# EAGLE library part TRANS_38X30MM (library __MyCommonLib1)
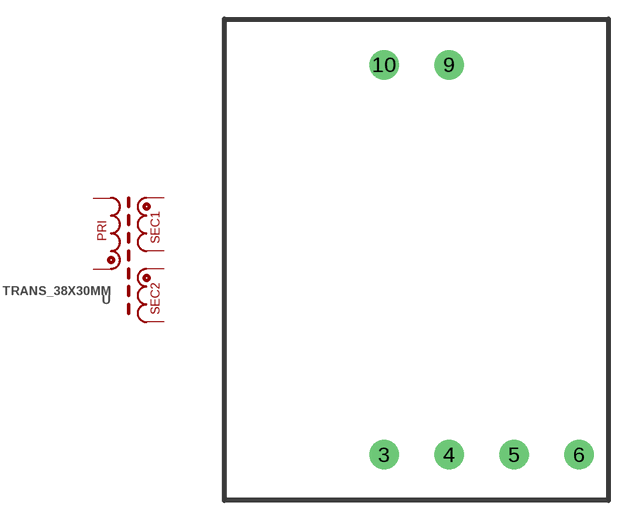
[diagram p18: symbol with the pads of TRANS_38X35MM; footprint TRANS_38X35MM]

Designator prefix -

## TRANS_38X30MM  [TRANS_38X35MM]
3  SEC2_END
4  SEC2_START
5  SEC1_END
6  SEC1_START
9  PRI_START
10  PRI_END

## Footprint TRANS_38X35MM (pad centres in mm)
drill 0.9 pad 2.3: 3 -2.54,-15.24; 4 2.54,-15.24; 5 7.62,-15.24; 6 12.7,-15.24; 9 2.54,15.24; 10 -2.54,15.24